# Altium schematic symbol library SK32SMA-3G.SchLib: 1 symbol
Pins are listed as number, name and electrical type; pins without a type are passive.

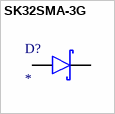
[diagram p0: symbol SK32SMA-3G]

## SK32SMA-3G
designator D?
Diode; Datasheet Link: https://diotec.com/tl_files/diotec/files/pdf/datasheets/sk32sma.pdf; Package: SMA - DO-214AC
footprint DIOM5026X262N
pins: 1 K, 2 A